# Altium integrated library MasterLib.IntLib: 211 symbols (part 2 of 2)
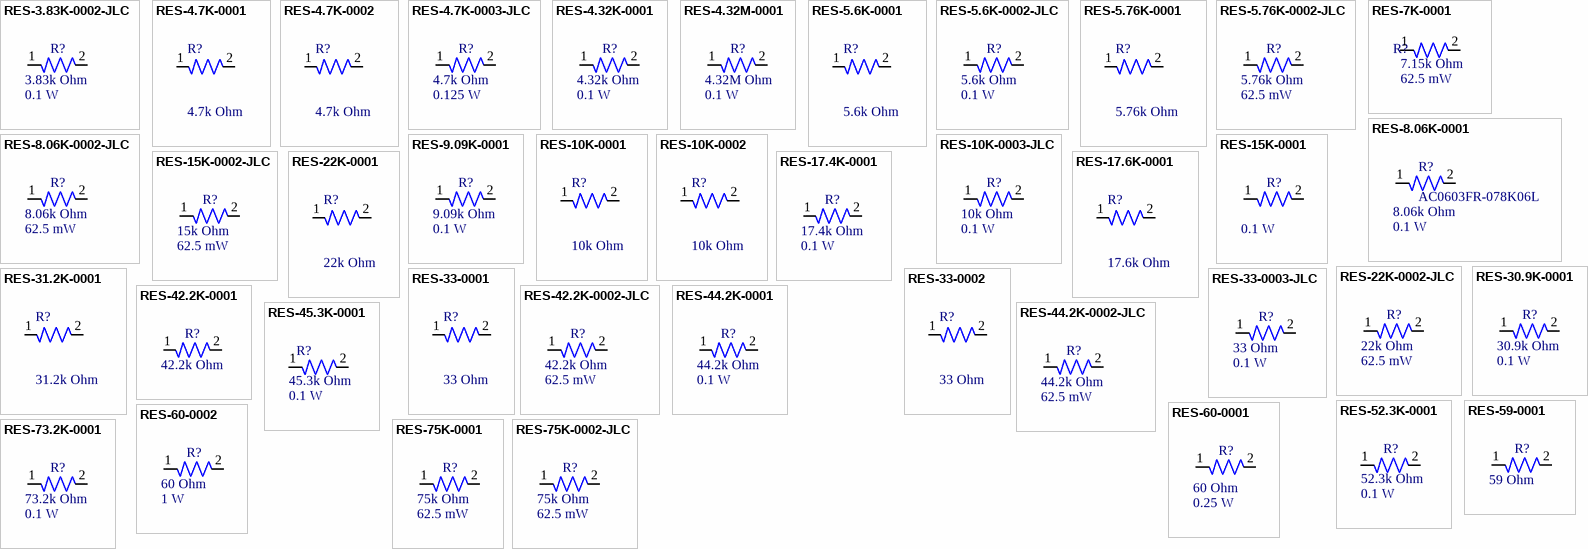
[diagram p6: symbols RES-3.83K-0002-JLC to RES-75K-0002-JLC]

## RES-5.6K-0001
designator R?, comment Resistance: 5.6k Ohm  (hidden comment: AC0402FR-075K6L)
5.6 kOhms ±1% 0.063W, 1/16W Chip Resistor 0402 (1005 Metric) Automotive AEC-Q200, Moisture Resistant Thick Film; Manufacturer: YAGEO; Assembled?: no; Power: 62.5 mW; Manufacturer Part Number: AC0402FR-075K6L; Package Size: 0402; Tolerance: 1%
footprint RES-0402
pins: 1, 2

## RES-5.6K-0002-JLC
designator R?, comment Resistance: 5.6k Ohm  Power: 0.1 W  (hidden comment: ERJ2GEJ472X)
100mW Thick Film Resistors ±5% ±200ppm/℃ -55℃~+155℃ 4.7kΩ 0402  Chip Resistor - Surface Mount ROHS; assembled?: yes; JLC part number: C413001; Tolerance: 5%
footprint RES-0402
pins: 1, 2

## RES-5.76K-0001
designator R?, comment Resistance: 5.76k Ohm  (hidden comment: ARG03FTC5761)
100mW Thin Film Resistor 75V ±25ppm/℃ ±1% -55℃~+155℃ 5.76kΩ 0603 Chip Resistor - Surface Mount ROHS; Manufacturer: Viking Tech; Assembled?: no; Power: 0.1 W; Manufacturer Part Number: ARG03FTC5761; Package Size: 0603; Tolerance: 1%
footprint RES-0603
pins: 1, 2

## RES-5.76K-0002-JLC
designator R?, comment Resistance: 5.76k Ohm  Power: 62.5 mW  (hidden comment: RTT025761FTH)
62.5mW Thick Film Resistors 50V ±100ppm/℃ ±1% -55℃~+155℃ 5.76kΩ 0402  Chip Resistor - Surface Mount ROHS; assembled?: yes; JLC part number: C11590; Tolerance: 1%
footprint RES-0402
pins: 1, 2

## RES-7K-0001
designator R?, comment Resistance: 7.15k Ohm  Power: 62.5 mW  (hidden comment: CRCW04027K15FKED)
7.15 kOhms ±1% 0.063W, 1/16W Chip Resistor 0402 (1005 Metric) Automotive AEC-Q200 Thick Film; Tolerance: 1%
footprint RES-0402
pins: 1, 2

## RES-8.06K-0001
designator R?, comment AC0603FR-078K06L  Resistance: 8.06k Ohm  Power: 0.1 W
8.06 kOhms ±1% 0.1W, 1/10W Chip Resistor 0603 (1608 Metric) Automotive AEC-Q200, Moisture Resistant Thick Film; Tolerance: 1%
footprint RES-0603
pins: 1, 2

## RES-8.06K-0002-JLC
designator R?, comment Resistance: 8.06k Ohm  Power: 62.5 mW  (hidden comment: RC0402FR-078K06L)
62.5mW Thick Film Resistors 50V ±100ppm/℃ ±1% -55℃~+155℃ 8.06kΩ 0402  Chip Resistor - Surface Mount ROHS; assembled?: yes; JLC part number: C276278; Tolerance: 1%
footprint RES-0402
pins: 1, 2

## RES-9.09K-0001
designator R?, comment Resistance: 9.09k Ohm  Power: 0.1 W  (hidden comment: RC0603FR-079K09L)
9.09 kOhms ±1% 0.1W, 1/10W Chip Resistor 0603 (1608 Metric) Moisture Resistant Thick Film; Assembled?: No; Tolerance: 1%; Package Size: 0603
footprint RES-0603
pins: 1, 2

## RES-10K-0001
designator R?, comment Resistance: 10k Ohm  (hidden comment: RC0402FR-0710KL)
RES 10K OHM 1% 1/16W 0402; Manufacturer: YAGEO; Assembled?: no; Power: 62.5 mW; Manufacturer Part Number: RC0402FR-0710KL; Package Size: 0402; Tolerance: 1%
footprint RES-0402
pins: 1, 2

## RES-10K-0002
designator R?, comment Resistance: 10k Ohm  (hidden comment: RC0603FR-0710KP)
RES SMD 10K OHM 1% 1/10W 0603; Manufacturer: YAGEO; Assembled?: no; Power: 0.1 W; Manufacturer Part Number: RC0603FR-0710KP; Package Size: 0603; Tolerance: 1%
footprint RES-0603
pins: 1, 2

## RES-10K-0003-JLC
designator R?, comment Resistance: 10k Ohm  Power: 0.1 W  (hidden comment: ERJ2GEJ103X)
100mW Thick Film Resistors 100V ±5% ±200ppm/℃ -55℃~+155℃ 10kΩ 0402  Chip Resistor - Surface Mount ROHS; assembled?: yes; JLC part number: C278577; Tolerance: 5%
footprint RES-0402
pins: 1, 2

## RES-15K-0001
designator R?, comment Power: 0.1 W  (hidden comment: ERJ-2RKF1502X)
15 kOhms ±1% 0.1W, 1/10W Chip Resistor 0402 (1005 Metric) Automotive AEC-Q200 Thick Film; Resistance: 15k Ohm; Tolerance: 1%
footprint RES-0402
pins: 1, 2

## RES-15K-0002-JLC
designator R?, comment Resistance: 15k Ohm  Power: 62.5 mW  (hidden comment: 0402WGF1502TCE)
62.5mW Thick Film Resistors 50V ±100ppm/℃ ±1% -55℃~+155℃ 15kΩ 0402 Chip Resistor - Surface Mount ROHS; jlc?: yes; jlc part number: C25756; Tolerance: 1%
footprint RES-0402
pins: 1, 2

## RES-17.4K-0001
designator R?, comment Resistance: 17.4k Ohm  Power: 0.1 W  (hidden comment: RC0603FR-0717K4L)
17.4 kOhms ±1% 0.1W, 1/10W Chip Resistor 0603 (1608 Metric) Moisture Resistant Thick Film; Assembled?: No; Tolerance: 1%; Package Size: 0603
footprint RES-0603
pins: 1, 2

## RES-17.6K-0001
designator R?, comment Resistance: 17.6k Ohm  (hidden comment: TNPW040217K6BEED)
17.6 kOhms ±0.1% 0.063W, 1/16W Chip Resistor 0402 (1005 Metric) Anti-Sulfur, Automotive AEC-Q200, Moisture Resistant Thin Film; Manufacturer: Vishay Dale; Assembled?: no; Power: 62.5 mW; Manufacturer Part Number: TNPW040217K6BEED; Package Size: 0402; Tolerance: 0.1%
footprint RES-0402
pins: 1, 2

## RES-22K-0001
designator R?, comment Resistance: 22k Ohm  (hidden comment: RC0402FR-1022KL)
22 kOhms ±1% 0.063W, 1/16W Chip Resistor 0402 (1005 Metric) Thick Film; Manufacturer: YAGEO; Assembled?: no; Power: 62.5 mW; Manufacturer Part Number: RC0402FR-1022KL; Package Size: 0402; Tolerance: 1%
footprint RES-0402
pins: 1, 2

## RES-22K-0002-JLC
designator R?, comment Resistance: 22k Ohm  Power: 62.5 mW  (hidden comment: AC0402FR-0722KL)
62.5mW Thick Film Resistors 50V ±100ppm/℃ ±1% -55℃~+155℃ 22kΩ 0402  Chip Resistor - Surface Mount ROHS; assembled?: yes; JLC part number: C144778; Tolerance: 1%
footprint RES-0402
pins: 1, 2

## RES-30.9K-0001
designator R?, comment Resistance: 30.9k Ohm  Power: 0.1 W  (hidden comment: RC0603FR-0730K9L)
30.9 kOhms ±1% 0.1W, 1/10W Chip Resistor 0603 (1608 Metric) Moisture Resistant Thick Film; Assembled?: No; Tolerance: 1%; Package Size: 0603
footprint RES-0603
pins: 1, 2

## RES-31.2K-0001
designator R?, comment Resistance: 31.2k Ohm  (hidden comment: RT0603DRE0731K2L)
31.2 kOhms ±0.5% 0.1W, 1/10W Chip Resistor 0603 (1608 Metric) Thin Film; Manufacturer: YAGEO; Assembled?: no; Manufacturer Part Number: RT0603DRE0731K2L; Package Size: 0603; Tolerance: 0.5%; Power: 0.1 W
footprint RES-0603
pins: 1, 2

## RES-33-0001
designator R?, comment Resistance: 33 Ohm  (hidden comment: RC0402JR-0733RP)
RES SMD 33 OHM 5% 1/16W 0402; Manufacturer: YAGEO; Assembled?: no; Power: 62.5 mW; Manufacturer Part Number: RC0402JR-0733RP; Package Size: 0402; Tolerance: 5%
footprint RES-0402
pins: 1, 2

## RES-33-0002
designator R?, comment Resistance: 33 Ohm  (hidden comment: RC0603FR-0733RP)
RES SMD 33 OHM 1% 1/10W 0603; Manufacturer: YAGEO; Assembled?: no; Power: 0.1 W; Manufacturer Part Number: RC0603FR-0733RP; Package Size: 0603; Tolerance: 1%
footprint RES-0603
pins: 1, 2

## RES-33-0003-JLC
designator R?, comment Resistance: 33 Ohm  Power: 0.1 W  (hidden comment: ERJ2RKF33R0X)
100mW Thick Film Resistors ±100ppm/℃ ±1% -55℃~+155℃ 33Ω 0402  Chip Resistor - Surface Mount ROHS; assembled?: yes; JLC part number: C278594; Tolerance: 1%
footprint RES-0402
pins: 1, 2

## RES-42.2K-0001
designator R?, comment Resistance: 42.2k Ohm  (hidden comment: CRCW060342K2FKEA)
42.2 kOhms ±1% 0.1W, 1/10W Chip Resistor 0603 (1608 Metric) Automotive AEC-Q200 Thick Film; Manufacturer: VIshay Dale; Assembled?: Yes; Manufacturer Part Number: CRCW060342K2FKEA; Package Size: 0603; Tolerance: 1%; Power: 0.1 W
footprint RES-0603
pins: 1, 2

## RES-42.2K-0002-JLC
designator R?, comment Resistance: 42.2k Ohm  Power: 62.5 mW  (hidden comment: RC0402DR-0742K2L)
62.5mW Thick Film Resistors 50V ±100ppm/℃ ±0.5% -55℃~+155℃ 42.2kΩ 0402  Chip Resistor - Surface Mount ROHS; assembled?: yes; JLC part number: C471785; Tolerance: 0.5%
footprint RES-0402
pins: 1, 2

## RES-44.2K-0001
designator R?, comment Resistance: 44.2k Ohm  Power: 0.1 W  (hidden comment: RMCF0603FT44K2)
44.2 kOhms ±1% 0.1W, 1/10W Chip Resistor 0603 (1608 Metric) Automotive AEC-Q200 Thick Film; Tolerance: 1%
footprint RES-0603
pins: 1, 2

## RES-44.2K-0002-JLC
designator R?, comment Resistance: 44.2k Ohm  Power: 62.5 mW  (hidden comment: RC0402FR-0744K2L)
62.5mW Thick Film Resistors 50V ±100ppm/℃ ±1% -55℃~+155℃ 44.2kΩ 0402  Chip Resistor - Surface Mount ROHS; assembled?: yes; JLC part number: C354260; Tolerance: 1%
footprint RES-0402
pins: 1, 2

## RES-45.3K-0001
designator R?, comment Power: 0.1 W  Resistance: 45.3k Ohm  (hidden comment: RC0603FR-0745K3L)
45.3 kOhms ±1% 0.1W, 1/10W Chip Resistor 0603 (1608 Metric) Moisture Resistant Thick Film; Assembled?: no; Tolerance: 1%; Package Size: 0603
footprint RES-0603
pins: 1, 2

## RES-52.3K-0001
designator R?, comment Resistance: 52.3k Ohm  Power: 0.1 W  (hidden comment: RC0603FR-0752K3L)
52.3 kOhms ±1% 0.1W, 1/10W Chip Resistor 0603 (1608 Metric) Moisture Resistant Thick Film; Manufacturer: YAGEO; Assembled?: no; Manufacturer Part Number: RC0603FR-0752K3L; Tolerance: 1%; Package Size: 0603
footprint RES-0603
pins: 1, 2

## RES-59-0001
designator R?, comment Resistance: 59 Ohm  (hidden comment: RC1206FR-0759RL)
59 Ohms ±1% 0.25W, 1/4W Chip Resistor 1206 (3216 Metric) Moisture Resistant Thick Film; Assembled?: No; Tolerance: 1%; Power: 0.25 W; Package Size: 1206
footprint RES-1206
pins: 1, 2

## RES-60-0001
designator R?, comment Resistance: 60 Ohm  Power: 0.25 W  (hidden comment: CRCW120660R0KNEAIF)
Thick Film Resistors - SMD 1/4watt 60ohms 10%; Assembled?: No; Package Size: 1206; Tolerance: 10%
footprint RES-1206
pins: 1, 2

## RES-60-0002
designator R?, comment Resistance: 60 Ohm  Power: 1 W  (hidden comment: CMF6060R000BHR6)
Metal Film Resistors 1W 60ohms .1%; Tolerance: 0.1%; Voltage Rating: 500V; Package Size: Through Hole
footprint RES-60-0002
pins: 1, 2

## RES-73.2K-0001
designator R?, comment Resistance: 73.2k Ohm  Power: 0.1 W  (hidden comment: RC0603FR-0773K2L)
73.2 kOhms ±1% 0.1W, 1/10W Chip Resistor 0603 (1608 Metric) Moisture Resistant Thick Film; Assembled?: No; Tolerance: 1%; Package Size: 0603
footprint RES-0603
pins: 1, 2

## RES-75K-0001
designator R?, comment Resistance: 75k Ohm  Power: 62.5 mW  (hidden comment: RMCF0402JT75K0)
75 kOhms ±5% 0.063W, 1/16W Chip Resistor 0402 (1005 Metric) Automotive AEC-Q200 Thick Film; Tolerance: 5%
footprint RES-0402
pins: 1, 2

## RES-75K-0002-JLC
designator R?, comment Resistance: 75k Ohm  Power: 62.5 mW  (hidden comment: CR0402FF7502G)
62.5mW Thick Film Resistors 50V ±1% ±200ppm/℃ -55℃~+125℃ 75kΩ 0402  Chip Resistor - Surface Mount ROHS; assembled?: yes; JLC part number: C100527; Tolerance: 1%
footprint RES-0402
pins: 1, 2

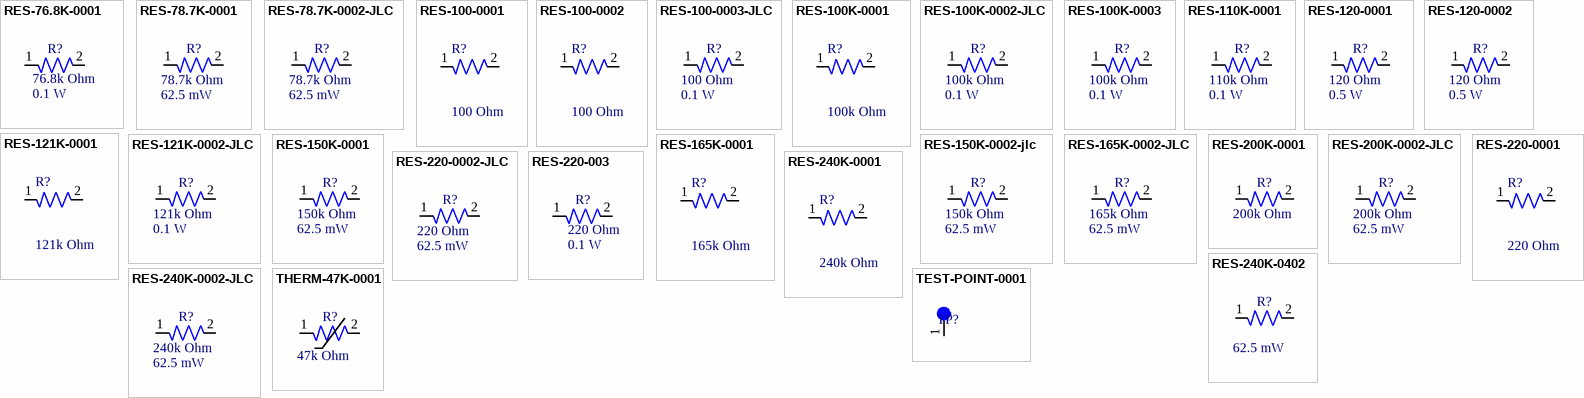
[diagram p5: symbols RES-76.8K-0001 to THERM-47K-0001]

## RES-76.8K-0001
designator R?, comment Power: 0.1 W  Resistance: 76.8k Ohm  (hidden comment: RC0603FR-0776K8L)
76.8 kOhms ±1% 0.1W, 1/10W Chip Resistor 0603 (1608 Metric) Moisture Resistant Thick Film; Manufacturer: Yageo; Package Size: 0603; Tolerance: 1%
footprint RES-0603
pins: 1, 2

## RES-78.7K-0001
designator R?, comment Resistance: 78.7k Ohm  Power: 62.5 mW  (hidden comment: RMCF0402FT78K7)
78.7 kOhms ±1% 0.063W, 1/16W Chip Resistor 0402 (1005 Metric) Automotive AEC-Q200 Thick Film; Tolerance: 1%
footprint RES-0402
pins: 1, 2

## RES-78.7K-0002-JLC
designator R?, comment Resistance: 78.7k Ohm  Power: 62.5 mW  (hidden comment: RC0402FR-0778K7L)
62.5mW 50V ±100ppm/℃ ±1% -55℃~+155℃ 78.7kΩ 0402  Chip Resistor - Surface Mount ROHS; assembled?: yes; JLC part number: C163454; Tolerance: 1%
footprint RES-0402
pins: 1, 2

## RES-100-0001
designator R?, comment Resistance: 100 Ohm  (hidden comment: RC0402JR-07100RP)
RES SMD 100 OHM 5% 1/16W 0402; Manufacturer: YAGEO; Assembled?: no; Power: 62.5 mW; Manufacturer Part Number: RC0402JR-07100RP; Package Size: 0402; Tolerance: 5%
footprint RES-0402
pins: 1, 2

## RES-100-0002
designator R?, comment Resistance: 100 Ohm  (hidden comment: AC0603FR-10100RL)
100 Ohms ±1% 0.1W, 1/10W Chip Resistor 0603 (1608 Metric) Automotive AEC-Q200 Thick Film; Manufacturer: YAGEO; Assembled?: no; Manufacturer Part Number: AC0603FR-10100RL; Package Size: 0603; Tolerance: 1%; Power: 0.1 W
footprint RES-0603
pins: 1, 2

## RES-100-0003-JLC
designator R?, comment Resistance: 100 Ohm  Power: 0.1 W  (hidden comment: ERJ2GEJ101X)
100mW Thick Film Resistors ±5% ±200ppm/℃ -55℃~+155℃ 100Ω 0402  Chip Resistor - Surface Mount ROHS; assembled?: yes; JLC part number: C412972; Tolerance: 5%
footprint RES-0402
pins: 1, 2

## RES-100K-0001
designator R?, comment Resistance: 100k Ohm  (hidden comment: AF0402FR-07100KL)
100 kOhms ±1% 0.063W, 1/16W Chip Resistor 0402 (1005 Metric) Anti-Sulfur, Automotive AEC-Q200 Thick Film; Manufacturer: YAGEO; Assembled?: no; Power: 62.5 mW; Manufacturer Part Number: AF0402FR-07100KL; Package Size: 0402; Tolerance: 1%
footprint RES-0402
pins: 1, 2

## RES-100K-0002-JLC
designator R?, comment Resistance: 100k Ohm  Power: 0.1 W  (hidden comment: ERJ2GEJ104X)
100mW Thick Film Resistors ±5% ±200ppm/℃ -55℃~+155℃ 100kΩ 0402  Chip Resistor - Surface Mount ROHS; assembled?: yes; JLC part number: C413017; Tolerance: 5%
footprint RES-0402
pins: 1, 2

## RES-100K-0003
designator R?, comment Resistance: 100k Ohm  Power: 0.1 W  (hidden comment: RC0603FR-07100KL)
100 kOhms ±1% 0.1W, 1/10W Chip Resistor 0603 (1608 Metric) Moisture Resistant Thick Film; Assembled?: No; Tolerance: 1%; Package Size: 0603
footprint RES-0603
pins: 1, 2

## RES-110K-0001
designator R?, comment Resistance: 110k Ohm  Power: 0.1 W  (hidden comment: RC0603FR-07110KL)
110 kOhms ±1% 0.1W, 1/10W Chip Resistor 0603 (1608 Metric) Moisture Resistant Thick Film; Assembled?: No; Tolerance: 1%; Package Size: 0603
footprint RES-0603
pins: 1, 2

## RES-120-0001
designator R?, comment Resistance: 120 Ohm  Power: 0.5 W  (hidden comment: ERJ-P06J121V)
120 Ohms ±5% 0.5W, 1/2W Chip Resistor 0805 (2012 Metric) Automotive AEC-Q200, Pulse Withstanding Thick Film; Tolerance: 5%
footprint RES-0805
pins: 1, 2

## RES-120-0002
designator R?, comment Resistance: 120 Ohm  Power: 0.5 W  (hidden comment: CRGH1206F120R)
120 Ohms ±1% 0.5W, 1/2W Chip Resistor 1206 (3216 Metric) Thick Film; Tolerance: 1%; Package Size: 1206
footprint RES-1206
pins: 1, 2

## RES-121K-0001
designator R?, comment Resistance: 121k Ohm  (hidden comment: RC0603FR-07121KL)
121k Ohms ±1% 0.1W, 1/10W Chip Resistor 0603 (1608 Metric) Moisture Resistant Thick Film; Manufacturer: YAGEO; Assembled?: no; Manufacturer Part Number: RC0603FR-07121KL; Package Size: 0603; Tolerance: 1%; Power: 0.1 W
footprint RES-0603
pins: 1, 2

## RES-121K-0002-JLC
designator R?, comment Resistance: 121k Ohm  Power: 0.1 W  (hidden comment: RMC10K1213FTH)
100mW ±100ppm/℃ ±1% 121kΩ 0402  Chip Resistor - Surface Mount ROHS; assembled?: yes; JLC part number: C323687; Tolerance: 1%
footprint RES-0402
pins: 1, 2

## RES-150K-0001
designator R?, comment Resistance: 150k Ohm  Power: 62.5 mW  (hidden comment: *RC0402JR-07150KL)
150 kOhms ±5% 0.063W, 1/16W Chip Resistor 0402 (1005 Metric) Moisture Resistant Thick Film; Tolerance: 5%
footprint RES-0402
pins: 1, 2

## RES-150K-0002-jlc
designator R?, comment Resistance: 150k Ohm  Power: 62.5 mW  (hidden comment: AF0402FR-07150KL)
62.5mW Thick Film Resistors 50V ±100ppm/℃ ±1% -55℃~+155℃ 150kΩ 0402 Chip Resistor - Surface Mount ROHS; jlc part number: C144033; jlc?: yes; Tolerance: 1%
footprint RES-0402
pins: 1, 2

## RES-165K-0001
designator R?, comment Resistance: 165k Ohm  (hidden comment: RC0603FR-07165KL)
165k Ohms ±1% 0.1W, 1/10W Chip Resistor 0603 (1608 Metric) Moisture Resistant Thick Film; Manufacturer: YAGEO; Assembled?: no; Manufacturer Part Number: RC0603FR-07165KL; Package Size: 0603; Tolerance: 1%; Power: 0.1 W
footprint RES-0603
pins: 1, 2

## RES-165K-0002-JLC
designator R?, comment Resistance: 165k Ohm  Power: 62.5 mW  (hidden comment: RC0402FR-07165KL)
62.5mW Thick Film Resistors 50V ±100ppm/℃ ±1% -55℃~+155℃ 165kΩ 0402  Chip Resistor - Surface Mount ROHS; assembled?: yes; JLC part number: C327368; Tolerance: 1%
footprint RES-0402
pins: 1, 2

## RES-200K-0001
designator R?, comment Resistance: 200k Ohm  (hidden comment: ERJ-3EKF2003V)
200 kOhms ±1% 0.1W, 1/10W Chip Resistor 0603 (1608 Metric) Automotive AEC-Q200 Thick Film; Manufacturer: Panasonic Electronic Components; Assembled?: Yes; MFP: ERJ-3EKF2003V; Package SIze: 0603; Tolerance: 1%; Power: 0.1 W
footprint RES-0603
pins: 1, 2

## RES-200K-0002-JLC
designator R?, comment Resistance: 200k Ohm  Power: 62.5 mW  (hidden comment: RC-02W2003FT)
62.5mW 50V ±1% ±200ppm/℃ -55℃~+155℃ 200kΩ 0402  Chip Resistor - Surface Mount ROHS; assembled?: yes; JLC part number: C258094; Tolerance: 1%
footprint RES-0402
pins: 1, 2

## RES-220-0001
designator R?, comment Resistance: 220 Ohm  (hidden comment: AC0402FR-07220RL)
220 Ohms ±1% 0.063W, 1/16W Chip Resistor 0402 (1005 Metric) Automotive AEC-Q200, Moisture Resistant Thick Film; Manufacturer: YAGEO; Assembled?: no; Power: 62.5 mW; Manufacturer Part Number: AC0402FR-07220RL; Package Size: 0402; Tolerance: 1%
footprint RES-0402
pins: 1, 2

## RES-220-0002-JLC
designator R?, comment Resistance: 220 Ohm  Power: 62.5 mW  (hidden comment: RM04FTN2200)
62.5mW Thick Film Resistors 50V ±100ppm/℃ ±1% -55℃~+155℃ 220Ω 0402  Chip Resistor - Surface Mount ROHS; assembled?: yes; JLC part number: C160487; Tolerance: 1%
footprint RES-0402
pins: 1, 2

## RES-220-003
designator R?, comment Resistance: 220 Ohm  Power: 0.1 W  (hidden comment: CRGCQ0603J220R)
220 Ohms ±5% 0.1W, 1/10W Chip Resistor 0603 (1608 Metric) Automotive AEC-Q200, Moisture Resistant Thick Film; Package Size: 0603; Tolerance: 5%
footprint RES-0603
pins: 1, 2

## RES-240K-0001
designator R?, comment Resistance: 240k Ohm  (hidden comment: RC0603FR-07240KL)
240k Ohms ±1% 0.1W, 1/10W Chip Resistor 0603 (1608 Metric) Moisture Resistant Thick Film; Manufacturer: YAGEO; Assembled?: no; Manufacturer Part Number: RC0603FR-07240KL; Package Size: 0603; Tolerance: 1%; Power: 0.1 W
footprint RES-0603
pins: 1, 2

## RES-240K-0002-JLC
designator R?, comment Resistance: 240k Ohm  Power: 62.5 mW  (hidden comment: 0402WGF2403TCE)
62.5mW Thick Film Resistors 50V ±100ppm/℃ ±1% -55℃~+155℃ 240kΩ 0402  Chip Resistor - Surface Mount ROHS; assembled?: yes; JLC part number: C64043; Tolerance: 1%
footprint RES-0402
pins: 1, 2

## RES-240K-0402
designator R?, comment Power: 62.5 mW  (hidden comment: RC1005J244CS)
240 kOhms ±5% 0.063W, 1/16W Chip Resistor 0402 (1005 Metric) Moisture Resistant Thick Film; Resistance: 240k Ohm; Tolerance: 5%
footprint RES-0402
pins: 1, 2

## TEST-POINT-0001
designator TP?, comment 5003  (value not drawn)
Oranange PC Test Point, Miniature Phoisphor Bronze Silver Plating Through Hole Mounting Type
footprint TEST-POINT-0001 (2024 miniature test point)
pins: 1 0

## THERM-47K-0001
designator R?, comment Resistance: 47k Ohm  (hidden comment: TMP6431DECR)
PTC Thermistor 47 kOhms 0402 (1006 Metric); Manufacturer: Texas Instruments; Tolerance: 1%; Manufacturer Part Number: TMP6431DECR; Package Size: 0402
footprint RES-0402
pins: 1, 2